# EAGLE library part STM32F103T (library elem)
Package not werifyed.
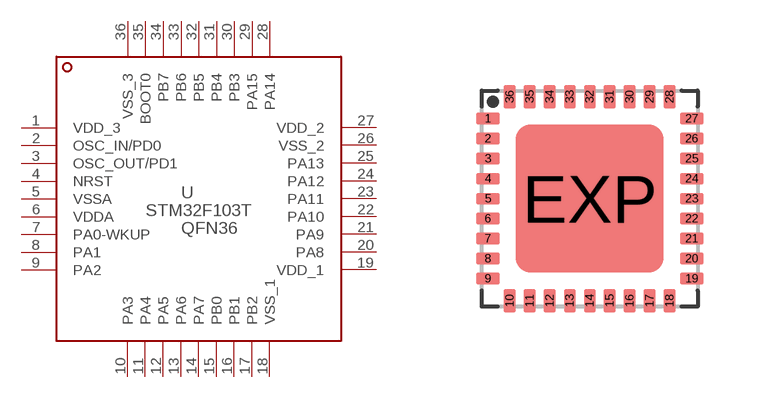
[diagram p0: symbol with the pads of QFN36; footprint QFN36]

Designator prefix -

## STM32F103T  [QFN36]
1  VDD_3
2  OSC_IN/PD0
3  OSC_OUT/PD1
4  NRST
5  VSSA
6  VDDA
7  PA0-WKUP
8  PA1
9  PA2
10  PA3
11  PA4
12  PA5
13  PA6
14  PA7
15  PB0
16  PB1
17  PB2
18  VSS_1
19  VDD_1
20  PA8
21  PA9
22  PA10
23  PA11
24  PA12
25  PA13
26  VSS_2
27  VDD_2
28  PA14
29  PA15
30  PB3
31  PB4
32  PB5
33  PB6
34  PB7
35  BOOT0
36  VSS_3

## Footprint QFN36 (pad centres in mm)
QFN 32 5 x 5 mm Source: http://datasheets.maxim-ic.com/en/ds/MAX7042.pdf
smd 0.6 x 0.3: 1 -2.3,1.75; 2 -2.3,1.25; 3 -2.3,0.75; 4 -2.3,0.25; 5 -2.3,-0.25; 6 -2.3,-0.75; 7 -2.3,-1.25; 8 -2.3,-1.75; 9 -2.3,-2.25; 19 2.8,-2.25; 20 2.8,-1.75; 21 2.8,-1.25; 22 2.8,-0.75; 23 2.8,-0.25; 24 2.8,0.25; 25 2.8,0.75; 26 2.8,1.25; 27 2.8,1.75
smd 0.3 x 0.6: 10 -1.75,-2.8; 11 -1.25,-2.8; 12 -0.75,-2.8; 13 -0.25,-2.8; 14 0.25,-2.8; 15 0.75,-2.8; 16 1.25,-2.8; 17 1.75,-2.8; 18 2.25,-2.8; 28 2.25,2.3; 29 1.75,2.3; 30 1.25,2.3; 31 0.75,2.3; 32 0.25,2.3; 33 -0.25,2.3; 34 -0.75,2.3; 35 -1.25,2.3; 36 -1.75,2.3
smd 3.7 x 3.7: EXP 0.25,-0.25